# Altium schematic symbol library REF5020AIDGKRR.Schlib: 1 symbol
Pins are listed as number, name and electrical type; pins without a type are passive.

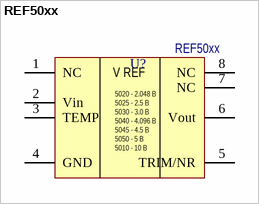
[diagram p0: symbol REF50xx]

## REF50xx
designator U?, comment Наименование: REF50xx  (hidden comment: AD39x)
Micropower, Low Noise Precision Voltage / References with Shutdown; Потрбление, Вт: 0,001; Назначение: Micropower, Low Noise Precision Voltage; ComponentLink1Description: DataSheet; ComponentLink1URL: https://www.ti.com/lit/ds/symlink/ref5020.pdf?ts=1698309938967&ref_url=https%253A%252F%252Fwww.ti.com%252Fproduct%252FREF5020%252Fpart-details%252FREF5020AIDGKR
footprint SOIC-8
pins: 1 NC, 2 Vin (power), 3 TEMP, 4 GND (power), 5 TRIM/NR (power), 6 Vout (power), 7 NC, 8 NC
text: V REF; 5020 - 2.048 В / 5025 - 2.5 В / 5030 - 3.0 В / 5040 - 4.096 В / 5045 - 4.5 В / 5050 - 5 В / 5010 - 10 В